# EAGLE library part LM1881N (library CVBS_Sync_Stripper)
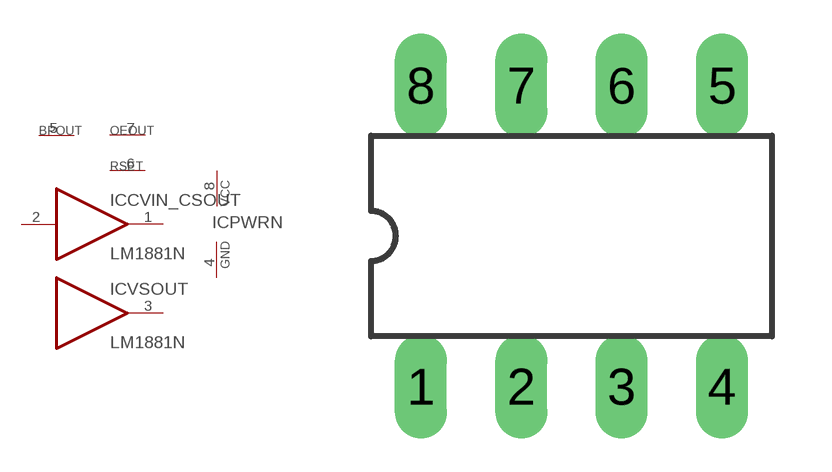
[diagram p0: symbol with the pads of DIL8; footprint DIL8]

Designator prefix IC; gates CVIN_CSOUT=BUFFER OUTPUTS=OUTPUT_PINS PWRN=PWRN VSOUT=BUFFERNOIN

## LM1881N  [DIL8]
1  CVIN_CSOUT:O  out
2  CVIN_CSOUT:I
3  VSOUT:O  out
4  PWRN:GND  pwr
5  OUTPUTS:BPOUT  out
6  OUTPUTS:RSET
7  OUTPUTS:OEOUT  out
8  PWRN:VCC  pwr

## Footprint DIL8 (pad centres in mm)
Dual In Line package type P
drill 0.813 long: 1 -3.81,-3.81; 2 -1.27,-3.81; 3 1.27,-3.81; 4 3.81,-3.81; 5 3.81,3.81; 6 1.27,3.81; 7 -1.27,3.81; 8 -3.81,3.81